# EAGLE library part ADP1707 (library analog-devices)
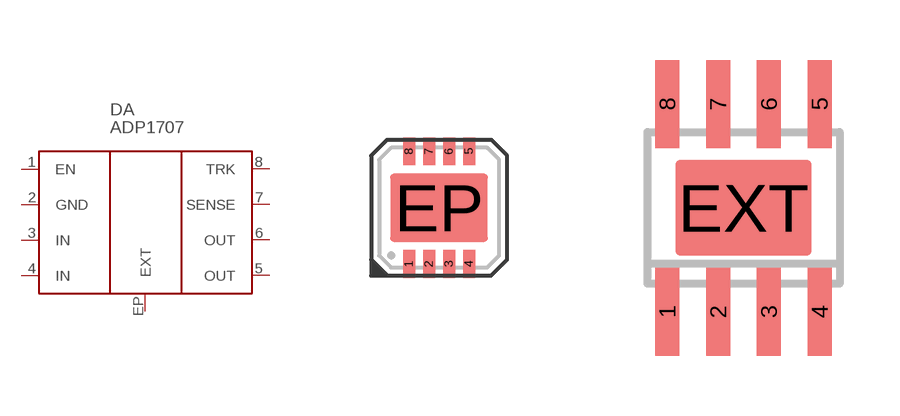
[diagram p5: symbol with the pads of LFCSP-8; footprints LFCSP-8, SO08_EP]

Designator prefix DA

## ADP1707ACPZ-1.3-R7  [LFCSP-8]
1  EN  in
2  GND  pwr
3  IN  pwr
4  IN  pwr
5  OUT  pwr
6  OUT  pwr
7  SENSE  in
8  TRK  in
EP  EXT  pwr

## ADP1707ACPZ-1.8-R7  [LFCSP-8]
Pads as for LFCSP-8

## ADP1707ACPZ-2.5-R7  [LFCSP-8]
Pads as for LFCSP-8

## ADP1707ACPZ-3.0-R7  [LFCSP-8]
Pads as for LFCSP-8

## ADP1707ACPZ-3.3-R7  [LFCSP-8]
Pads as for LFCSP-8

## ADP1707ARDZ-1.0-R7  [SO08_EP]
1  EN  in
2  GND  pwr
3  IN  pwr
4  IN  pwr
5  OUT  pwr
6  OUT  pwr
7  SENSE  in
8  TRK  in
EXT  EXT  pwr

## ADP1707ARDZ-1.1-R7  [SO08_EP]
Pads as for SO08_EP

## ADP1707ARDZ-1.2-R7  [SO08_EP]
Pads as for SO08_EP

## ADP1707ARDZ-1.3-R7  [SO08_EP]
Pads as for SO08_EP

## ADP1707ARDZ-1.5-R7  [SO08_EP]
Pads as for SO08_EP

## ADP1707ARDZ-1.8-R7  [SO08_EP]
Pads as for SO08_EP

## ADP1707ARDZ-2.5-R7  [SO08_EP]
Pads as for SO08_EP

## ADP1707ARDZ-3.0-R7  [SO08_EP]
Pads as for SO08_EP

## ADP1707ARDZ-3.3-R7  [SO08_EP]
Pads as for SO08_EP

## ADP1707ACPZ-1.1-R7  [LFCSP-8]
Pads as for LFCSP-8

## Footprint LFCSP-8 (pad centres in mm)
smd 0.3 x 0.7: 1 -0.75,-1.41; 2 -0.25,-1.41; 3 0.25,-1.41; 4 0.75,-1.41; 5 0.75,1.41; 6 0.25,1.41; 7 -0.25,1.41; 8 -0.75,1.41
smd 2.44 x 1.7: EP 0,0

## Footprint SO08_EP (pad centres in mm)
SMALL OUTLINE INTEGRATED CIRCUIT body 3.9 mm/JEDEC MS-012AA
smd 0.6 x 2.2: 1 -1.905,-2.6; 2 -0.635,-2.6; 3 0.635,-2.6; 4 1.905,-2.6; 5 1.905,2.6; 6 0.635,2.6; 7 -0.635,2.6; 8 -1.905,2.6
smd 3.4 x 2.4: EXT 0,0